# Altium footprint library IC-SMD.PCBLIB: 298 footprints (part 13 of 19)
Each footprint in its own frame and in the unit in brackets; x right, y up, seen from the top. Pads: shape width x height; smd on the part's side, far side on the other; paste and mask are expansions set on the pad; w line width, h text height; cw(c..) or ccw(c..) is an arc to the next point about the centre after c.
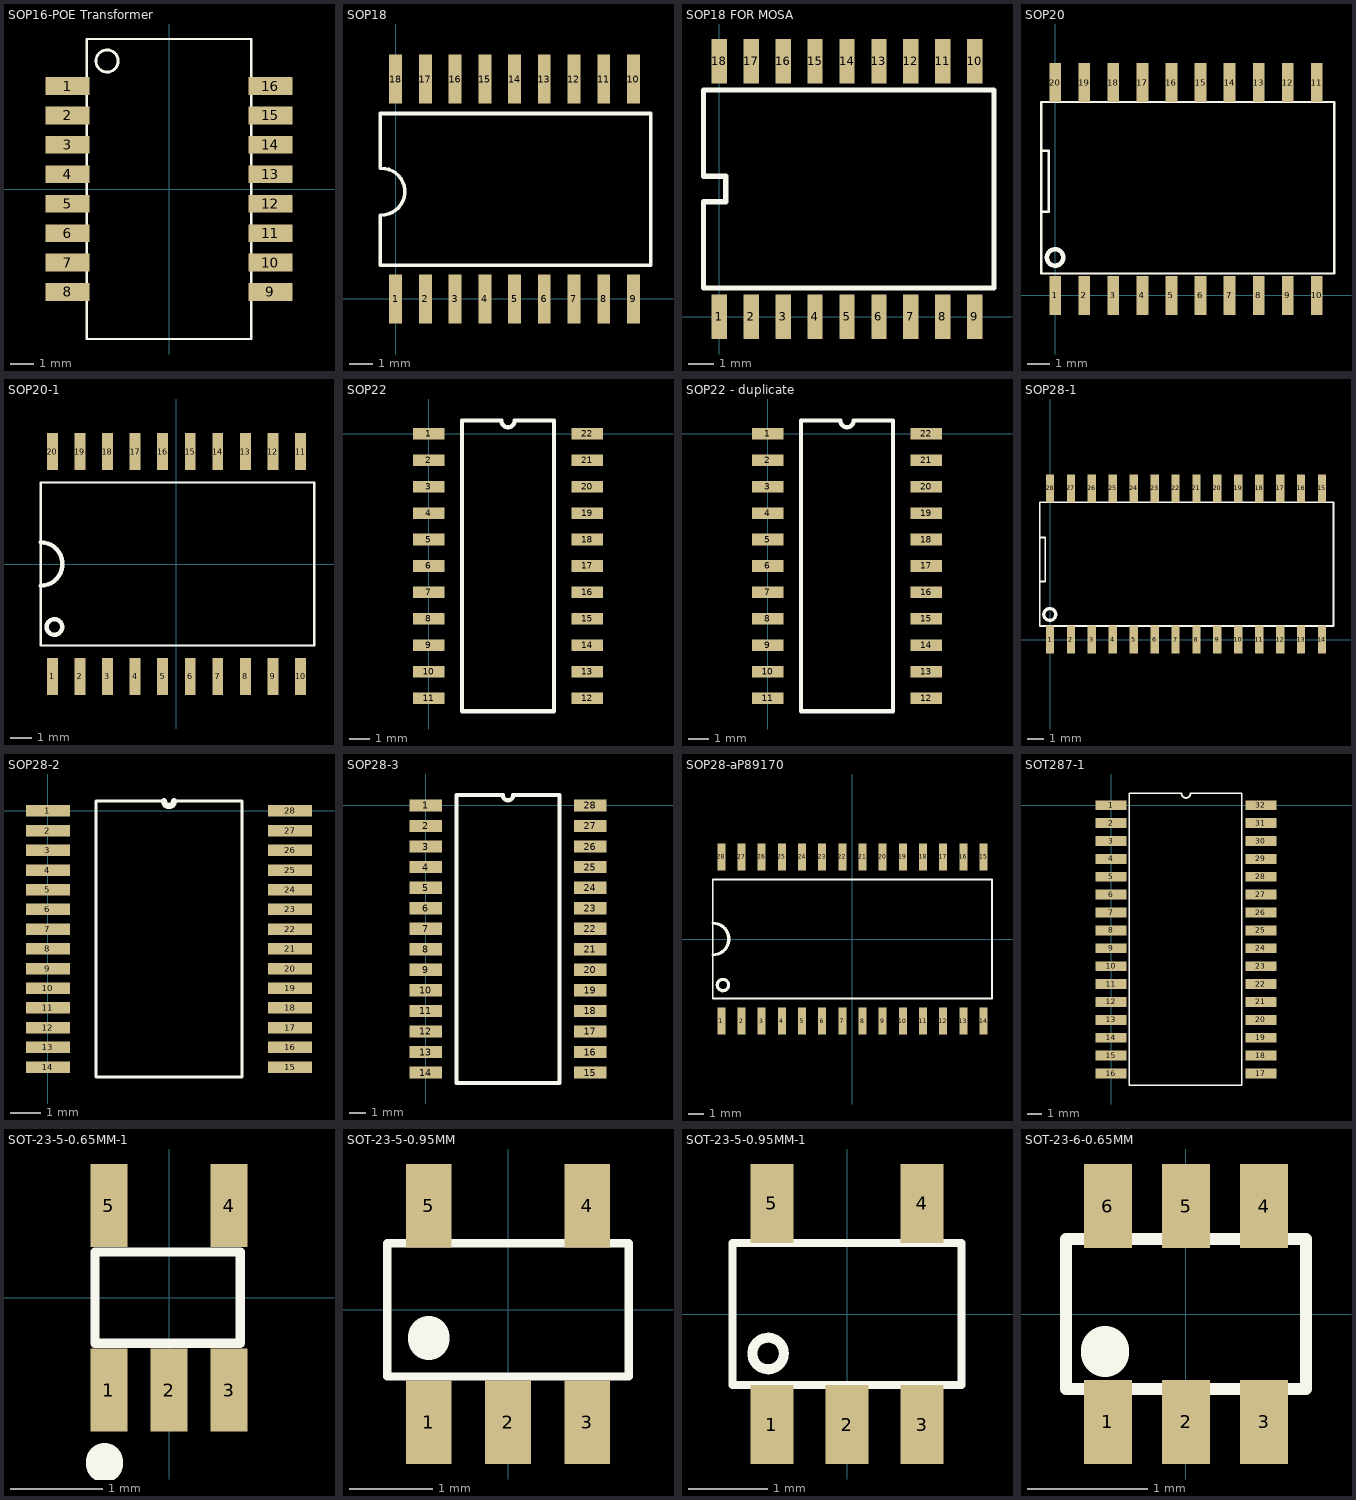
[diagram p12: the footprints below, top view; thin cyan lines are the x and y axes]

## SOP16-POE Transformer [mm] "SOP16-POE Transformer"
pads (16):
  rect 1.9x0.76 smd: 1(-4.38,4.445) 2(-4.38,3.175) 3(-4.38,1.905) 4(-4.38,0.635) 5(-4.38,-0.635) 6(-4.38,-1.905) 7(-4.38,-3.175) 8(-4.38,-4.445) 9(4.38,-4.445) 10(4.38,-3.175) 11(4.38,-1.905) 12(4.38,-0.635) 13(4.38,0.635) 14(4.38,1.905) 15(4.38,3.175) 16(4.38,4.445)
TopOverlay:
  circle w0.127: c-2.678,5.525 r0.478
  lines w0.1: -3.555,-6.475 3.555,-6.475 3.555,6.475 -3.555,6.475 -3.555,-6.475

## SOP18 [mil]
pads (18):
  rect 21.65x82.68 smd: 1(0,0) 2(50,0) 3(100,0) 4(150,0) 5(200,0) 6(250,0) 7(300,0) 8(350,0) 9(400,0) 10(400,370) 11(350,370) 12(300,370) 13(250,370) 14(200,370) 15(150,370) 16(100,370) 17(50,370) 18(0,370)
TopOverlay:
  lines w6: -26,141 -26,57 429.13,57 429.13,312 -26,312 -26,220 ; -23.97,141.2 ccw(c-23.97,180.57) -23.97,219.94

## SOP18 FOR MOSA [mil]
pads (18):
  rect 24x70 smd: 1(0,0) 2(50,0) 3(100,0) 4(150,0) 5(200,0) 6(250,0) 7(300,0) 8(350,0) 9(400,0) 10(400,400) 11(350,400) 12(300,400) 13(250,400) 14(200,400) 15(150,400) 16(100,400) 17(50,400) 18(0,400)
TopOverlay:
  lines w8: -25,45 -25,180 10,180 10,220 -25,220 -25,355 430,355 430,45 -25,45

## SOP20 [mm]
pads (20):
  rect 0.506x1.7 smd: 1(0,0) 2(1.27,0) 3(2.54,0) 4(3.81,0) 5(5.08,0) 6(6.35,0) 7(7.62,0) 8(8.89,0) 9(10.16,0) 10(11.43,0) 11(11.43,9.313) 12(10.16,9.313) 13(8.89,9.313) 14(7.62,9.313) 15(6.35,9.313) 16(5.08,9.313) 17(3.81,9.313) 18(2.54,9.313) 19(1.27,9.313) 20(0,9.313)
TopOverlay:
  circle w0.2: c-0.014,1.66 r0.359
  lines w0.1: -0.601,6.327 -0.294,6.327 -0.294,3.66 -0.55,3.66 ; -0.622,0.96 -0.622,8.46 12.2,8.46 12.2,0.96 -0.622,0.96

## SOP20-1 [mm]
pads (20):
  rect 0.5x1.7 smd: 1(-5.715,-5.175) 2(-4.445,-5.175) 3(-3.175,-5.175) 4(-1.905,-5.175) 5(-0.635,-5.175) 6(0.635,-5.175) 7(1.905,-5.175) 8(3.175,-5.175) 9(4.445,-5.175) 10(5.715,-5.175) 11(5.715,5.175) 12(4.445,5.175) 13(3.175,5.175) 14(1.905,5.175) 15(0.635,5.175) 16(-0.635,5.175) 17(-1.905,5.175) 18(-3.175,5.175) 19(-4.445,5.175) 20(-5.715,5.175)
TopOverlay:
  circle w0.2: c-5.619,-2.9 r0.359
  lines w0.1: -6.25,-3.75 6.35,-3.75 6.35,3.75 -6.25,3.75 -6.25,-3.75
  lines w0.2: -6.25,-1 ccw(c-6.25,0) -6.25,1

## SOP22 [mil]
pads (22):
  rect 60x22 smd: 1(0,0) 2(0,-50) 3(0,-100) 4(0,-150) 5(0,-200) 6(0,-250) 7(0,-300) 8(0,-350) 9(0,-400) 10(0,-450) 11(0,-500) 12(300,-500) 13(300,-450) 14(300,-400) 15(300,-350) 16(300,-300) 17(300,-250) 18(300,-200) 19(300,-150) 20(300,-100) 21(300,-50) 22(300,0)
TopOverlay:
  lines w8: 63,-525 237,-525 237,25 162.5,25 cw(c150,25) 137.5,25 63,25 63,-525

## SOP22 - duplicate [mil]
pads (22):
  rect 60x22 smd: 1(0,0) 2(0,-50) 3(0,-100) 4(0,-150) 5(0,-200) 6(0,-250) 7(0,-300) 8(0,-350) 9(0,-400) 10(0,-450) 11(0,-500) 12(300,-500) 13(300,-450) 14(300,-400) 15(300,-350) 16(300,-300) 17(300,-250) 18(300,-200) 19(300,-150) 20(300,-100) 21(300,-50) 22(300,0)
TopOverlay:
  lines w8: 63,-525 237,-525 237,25 162.5,25 cw(c150,25) 137.5,25 63,25 63,-525

## SOP28-1 [mm]
pads (28):
  rect 0.506x1.7 smd: 1(0,0) 2(1.27,0) 3(2.54,0) 4(3.81,0) 5(5.08,0) 6(6.35,0) 7(7.62,0) 8(8.89,0) 9(10.16,0) 10(11.43,0) 11(12.7,0) 12(13.97,0) 13(15.24,0) 14(16.51,0) 15(16.51,9.186) 16(15.24,9.186) 17(13.97,9.186) 18(12.7,9.186) 19(11.43,9.186) 20(10.16,9.186) 21(8.89,9.186) 22(7.62,9.186) 23(6.35,9.186) 24(5.08,9.186) 25(3.81,9.186) 26(2.54,9.186) 27(1.27,9.186) 28(0,9.186)
TopOverlay:
  circle w0.2: c-0.014,1.533 r0.359
  lines w0.1: -0.601,6.2 -0.294,6.2 -0.294,3.533 -0.55,3.533 ; -0.622,0.833 -0.622,8.333 17.208,8.333 17.208,0.833 -0.622,0.833

## SOP28-2 [mm]
pads (28):
  rect 1.45x0.38 smd: 1(0,0) 2(0,-0.65) 3(0,-1.3) 4(0,-1.95) 5(0,-2.6) 6(0,-3.25) 7(0,-3.9) 8(0,-4.55) 9(0,-5.2) 10(0,-5.85) 11(0,-6.5) 12(0,-7.15) 13(0,-7.8) 14(0,-8.45) 15(8,-8.45) 16(8,-7.8) 17(8,-7.15) 18(8,-6.5) 19(8,-5.85) 20(8,-5.2) 21(8,-4.55) 22(8,-3.9) 23(8,-3.25) 24(8,-2.6) 25(8,-1.95) 26(8,-1.3) 27(8,-0.65) 28(8,0)
TopOverlay:
  lines w0.1: 3.838,0.325 1.585,0.325 1.585,-8.775 6.415,-8.775 6.415,0.325 4.163,0.325
  lines w0.2: 3.837,0.325 ccw(c4,0.325) 4.163,0.325

## SOP28-3 [mil]
pads (28):
  rect 80x30 smd: 1(0,0) 2(0,-50) 3(0,-100) 4(0,-150) 5(0,-200) 6(0,-250) 7(0,-300) 8(0,-350) 9(0,-400) 10(0,-450) 11(0,-500) 12(0,-550) 13(0,-600) 14(0,-650) 15(400,-650) 16(400,-600) 17(400,-550) 18(400,-500) 19(400,-450) 20(400,-400) 21(400,-350) 22(400,-300) 23(400,-250) 24(400,-200) 25(400,-150) 26(400,-100) 27(400,-50) 28(400,0)
TopOverlay:
  lines w10: 75,-675 75,25 187.5,25 ccw(c200,25) 212.5,25 325,25 325,-675 75,-675

## SOP28-aP89170 [mm]
pads (28):
  rect 0.5x1.7 smd: 1(-8.255,-5.175) 2(-6.985,-5.175) 3(-5.715,-5.175) 4(-4.445,-5.175) 5(-3.175,-5.175) 6(-1.905,-5.175) 7(-0.635,-5.175) 8(0.635,-5.175) 9(1.905,-5.175) 10(3.175,-5.175) 11(4.445,-5.175) 12(5.715,-5.175) 13(6.985,-5.175) 14(8.255,-5.175) 15(8.255,5.175) 16(6.985,5.175) 17(5.715,5.175) 18(4.445,5.175) 19(3.175,5.175) 20(1.905,5.175) 21(0.635,5.175) 22(-0.635,5.175) 23(-1.905,5.175) 24(-3.175,5.175) 25(-4.445,5.175) 26(-5.715,5.175) 27(-6.985,5.175) 28(-8.255,5.175)
TopOverlay:
  circle w0.2: c-8.159,-2.9 r0.359
  lines w0.1: -8.79,-3.75 -8.79,3.75 8.79,3.75 8.79,-3.75 -8.79,-3.75
  lines w0.2: -8.79,-1 ccw(c-8.79,0) -8.79,1

## SOT287-1 [mm]
pads (32):
  rect 2.2x0.7 smd: 1(0,0) 2(0,-1.27) 3(0,-2.54) 4(0,-3.81) 5(0,-5.08) 6(0,-6.35) 7(0,-7.62) 8(0,-8.89) 9(0,-10.16) 10(0,-11.43) 11(0,-12.7) 12(0,-13.97) 13(0,-15.24) 14(0,-16.51) 15(0,-17.78) 16(0,-19.05) 17(10.65,-19.05) 18(10.65,-17.78) 19(10.65,-16.51) 20(10.65,-15.24) 21(10.65,-13.97) 22(10.65,-12.7) 23(10.65,-11.43) 24(10.65,-10.16) 25(10.65,-8.89) 26(10.65,-7.62) 27(10.65,-6.35) 28(10.65,-5.08) 29(10.65,-3.81) 30(10.65,-2.54) 31(10.65,-1.27) 32(10.65,0)
TopOverlay:
  lines w0.1: 5.008,0.835 1.3,0.835 1.3,-19.885 9.3,-19.885 9.3,0.835 5.643,0.835
  lines w0.127: 5.007,0.835 ccw(c5.325,0.835) 5.642,0.835

## SOT-23-5-0.65MM-1 [mm] "SOT-23-5-0.65MM-1"
pads (5):
  rect 0.4x0.9 smd: 1(-0.65,-1) 2(0,-1) 3(0.65,-1) 4(0.65,1) 5(-0.65,1)
TopOverlay:
  lines w0.1: -0.802,-0.493 -0.802,0.498 0.772,0.498 0.772,-0.493 -0.802,-0.493
  lines w0.4: -0.7,-1.8 -0.7,-1.775

## SOT-23-5-0.95MM [mm] "SOT-23-5-0.95MM"
pads (5):
  rect 0.55x1 smd: 1(-0.95,-1.35) 2(0,-1.35) 3(0.95,-1.35) 4(0.95,1.25) 5(-0.95,1.25)
TopOverlay:
  lines w0.1: -1.45,-0.8 1.45,-0.8 1.45,0.8 -1.45,0.8 -1.45,-0.8
  lines w0.5: -0.95,-0.35 -0.95,-0.325

## SOT-23-5-0.95MM-1 [mm] "SOT-23-5-0.95MM-1"
pads (5):
  rect 0.55x1 smd: 1(-0.95,-1.4) 2(0,-1.4) 3(0.95,-1.4) 4(0.95,1.4) 5(-0.95,1.4)
TopOverlay:
  circle w0.127: c-1,-0.5 r0.2
  lines w0.1: -1.45,-0.9 1.45,-0.9 1.45,0.9 -1.45,0.9 -1.45,-0.9

## SOT-23-6-0.65MM [mm] "SOT-23-6-0.65MM"
pads (6):
  rect 0.4x0.7 smd: 1(-0.65,-0.9) 2(0,-0.9) 3(0.65,-0.9) 4(0.65,0.9) 5(0,0.9) 6(-0.65,0.9)
TopOverlay:
  lines w0.1: -1,-0.625 1,-0.625 1,0.625 -1,0.625 -1,-0.625
  lines w0.4: -0.675,-0.325 -0.675,-0.3